# EAGLE library part LC4128ZE_XXMN144 (library lattice_ispmach4000ze)
ispMACH 4128ZE csBGA144 Lattice Semiconductor Corporation - ispMACH 4000ZE Ultra Low Power, Low Cost CPLD Family Generated using Lattice BSDL models: http://www.latticesemi.com/dynamic/index.cfm?fuseaction=view_documents&document_type=36&sloc=01-01-02-01&source=sidebar
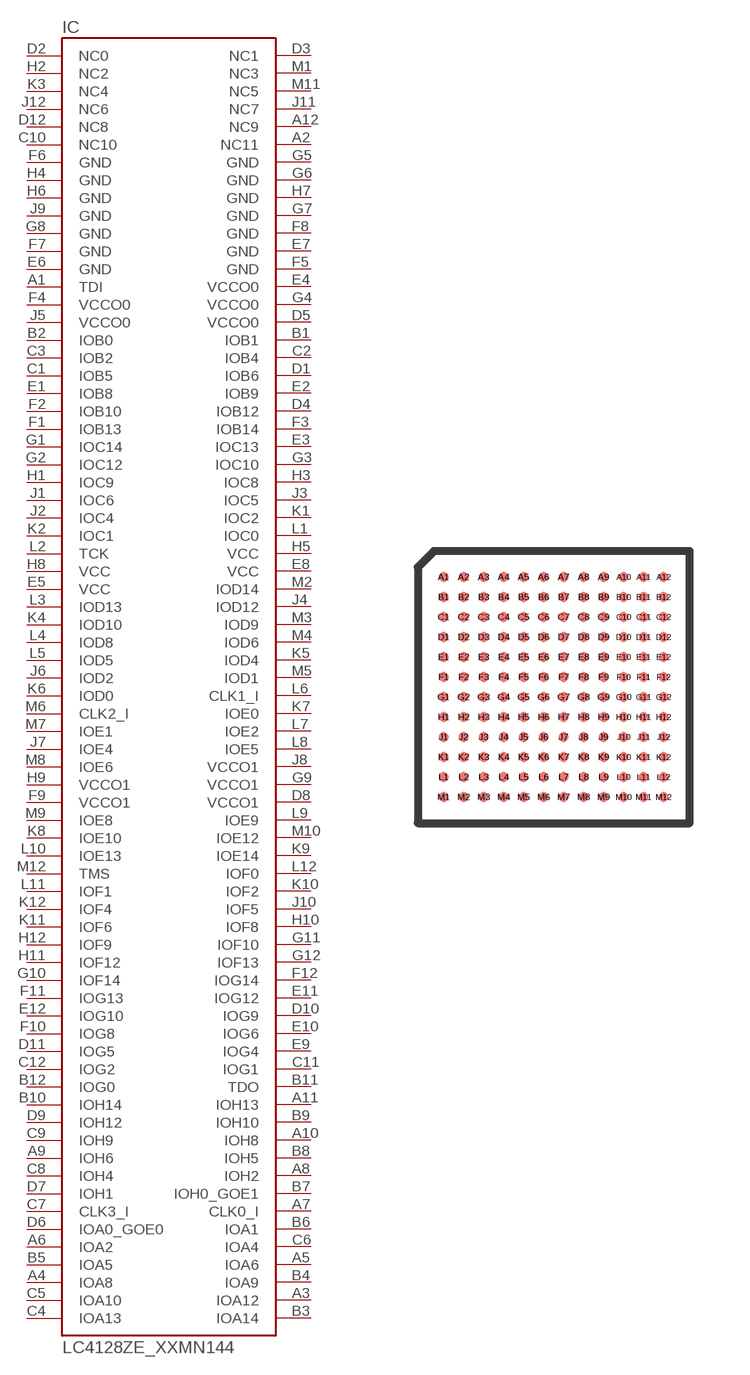
[diagram p10: symbol with the pads of CSBGA144; footprint CSBGA144]

Designator prefix IC

## LC4128ZE_XXMN144  [CSBGA144]
A1  TDI  in
A2  NC11  pas
A3  IOA12
A4  IOA8
A5  IOA6
A6  IOA2
A7  CLK0_I  in
A8  IOH2
A9  IOH6
A10  IOH8
A11  IOH13
A12  NC9  pas
B1  IOB1
B2  IOB0
B3  IOA14
B4  IOA9
B5  IOA5
B6  IOA1
B7  IOH0_GOE1
B8  IOH5
B9  IOH10
B10  IOH14
B11  TDO  out
B12  IOG0
C1  IOB5
C2  IOB4
C3  IOB2
C4  IOA13
C5  IOA10
C6  IOA4
C7  CLK3_I  in
C8  IOH4
C9  IOH9
C10  NC10  pas
C11  IOG1
C12  IOG2
D1  IOB6
D2  NC0  pas
D3  NC1  pas
D4  IOB12
D5  VCCO0  pwr
D6  IOA0_GOE0
D7  IOH1
D8  VCCO1  pwr
D9  IOH12
D10  IOG9
D11  IOG5
D12  NC8  pas
E1  IOB8
E2  IOB9
E3  IOC13
E4  VCCO0  pwr
E5  VCC  pwr
E6  GND  pwr
E7  GND  pwr
E8  VCC  pwr
E9  IOG4
E10  IOG6
E11  IOG12
E12  IOG10
F1  IOB13
F2  IOB10
F3  IOB14
F4  VCCO0  pwr
F5  GND  pwr
F6  GND  pwr
F7  GND  pwr
F8  GND  pwr
F9  VCCO1  pwr
F10  IOG8
F11  IOG13
F12  IOG14
G1  IOC14
G2  IOC12
G3  IOC10
G4  VCCO0  pwr
G5  GND  pwr
G6  GND  pwr
G7  GND  pwr
G8  GND  pwr
G9  VCCO1  pwr
G10  IOF14
G11  IOF10
G12  IOF13
H1  IOC9
H2  NC2  pas
H3  IOC8
H4  GND  pwr
H5  VCC  pwr
H6  GND  pwr
H7  GND  pwr
H8  VCC  pwr
H9  VCCO1  pwr
H10  IOF8
H11  IOF12
H12  IOF9
J1  IOC6
J2  IOC4
J3  IOC5
J4  IOD12
J5  VCCO0  pwr
J6  IOD2
J7  IOE4
J8  VCCO1  pwr
J9  GND  pwr
J10  IOF5
J11  NC7  pas
J12  NC6  pas
K1  IOC2
K2  IOC1
K3  NC4  pas
K4  IOD10
K5  IOD4
K6  IOD0
K7  IOE0
K8  IOE10
K9  IOE14
K10  IOF2
K11  IOF6
K12  IOF4
L1  IOC0
L2  TCK  in
L3  IOD13
L4  IOD8
L5  IOD5
L6  CLK1_I  in
L7  IOE2
L8  IOE5
L9  IOE9
L10  IOE13
L11  IOF1
L12  IOF0
M1  NC3  pas
M2  IOD14
M3  IOD9
M4  IOD6
M5  IOD1
M6  CLK2_I  in
M7  IOE1
M8  IOE6
M9  IOE8
M10  IOE12
M11  NC5  pas
M12  TMS  in

## Footprint CSBGA144 (pad centres in mm)
csBGA - 144 http://www.latticesemi.com/lit/docs/package/pkg.pdf
smd 0.25 x 0.25: A1 -2.75,2.75; A2 -2.25,2.75; A3 -1.75,2.75; A4 -1.25,2.75; A5 -0.75,2.75; A6 -0.25,2.75; A7 0.25,2.75; A8 0.75,2.75; A9 1.25,2.75; A10 1.75,2.75; A11 2.25,2.75; A12 2.75,2.75; B1 -2.75,2.25; B2 -2.25,2.25; B3 -1.75,2.25; B4 -1.25,2.25; B5 -0.75,2.25; B6 -0.25,2.25; B7 0.25,2.25; B8 0.75,2.25; B9 1.25,2.25; B10 1.75,2.25; B11 2.25,2.25; B12 2.75,2.25; C1 -2.75,1.75; C2 -2.25,1.75; C3 -1.75,1.75; C4 -1.25,1.75; C5 -0.75,1.75; C6 -0.25,1.75; C7 0.25,1.75; C8 0.75,1.75; C9 1.25,1.75; C10 1.75,1.75; C11 2.25,1.75; C12 2.75,1.75; D1 -2.75,1.25; D2 -2.25,1.25; D3 -1.75,1.25; D4 -1.25,1.25; D5 -0.75,1.25; D6 -0.25,1.25; D7 0.25,1.25; D8 0.75,1.25; D9 1.25,1.25; D10 1.75,1.25; D11 2.25,1.25; D12 2.75,1.25; E1 -2.75,0.75; E2 -2.25,0.75; E3 -1.75,0.75; E4 -1.25,0.75; E5 -0.75,0.75; E6 -0.25,0.75; E7 0.25,0.75; E8 0.75,0.75; E9 1.25,0.75; E10 1.75,0.75; E11 2.25,0.75; E12 2.75,0.75; F1 -2.75,0.25; F2 -2.25,0.25; F3 -1.75,0.25; F4 -1.25,0.25; F5 -0.75,0.25; F6 -0.25,0.25; F7 0.25,0.25; F8 0.75,0.25; F9 1.25,0.25; F10 1.75,0.25; F11 2.25,0.25; F12 2.75,0.25; G1 -2.75,-0.25; G2 -2.25,-0.25; G3 -1.75,-0.25; G4 -1.25,-0.25; G5 -0.75,-0.25; G6 -0.25,-0.25; G7 0.25,-0.25; G8 0.75,-0.25; G9 1.25,-0.25; G10 1.75,-0.25; G11 2.25,-0.25; G12 2.75,-0.25; H1 -2.75,-0.75; H2 -2.25,-0.75; H3 -1.75,-0.75; H4 -1.25,-0.75; H5 -0.75,-0.75; H6 -0.25,-0.75; H7 0.25,-0.75; H8 0.75,-0.75; H9 1.25,-0.75; H10 1.75,-0.75; H11 2.25,-0.75; H12 2.75,-0.75; J1 -2.75,-1.25; J2 -2.25,-1.25; J3 -1.75,-1.25; J4 -1.25,-1.25; J5 -0.75,-1.25; J6 -0.25,-1.25; J7 0.25,-1.25; J8 0.75,-1.25; J9 1.25,-1.25; J10 1.75,-1.25; J11 2.25,-1.25; J12 2.75,-1.25; K1 -2.75,-1.75; K2 -2.25,-1.75; K3 -1.75,-1.75; K4 -1.25,-1.75; K5 -0.75,-1.75; K6 -0.25,-1.75; K7 0.25,-1.75; K8 0.75,-1.75; K9 1.25,-1.75; K10 1.75,-1.75; K11 2.25,-1.75; K12 2.75,-1.75; L1 -2.75,-2.25; L2 -2.25,-2.25; L3 -1.75,-2.25; L4 -1.25,-2.25; L5 -0.75,-2.25; L6 -0.25,-2.25; L7 0.25,-2.25; L8 0.75,-2.25; L9 1.25,-2.25; L10 1.75,-2.25; L11 2.25,-2.25; L12 2.75,-2.25; M1 -2.75,-2.75; M2 -2.25,-2.75; M3 -1.75,-2.75; M4 -1.25,-2.75; M5 -0.75,-2.75; M6 -0.25,-2.75; M7 0.25,-2.75; M8 0.75,-2.75; M9 1.25,-2.75; M10 1.75,-2.75; M11 2.25,-2.75; M12 2.75,-2.75